# EAGLE library part 749020100A (library WE-LAN)
WE-LAN LAN Transformer Characteristics Suitable for industrial temperatures from –40 °C up to +125 °C Different version available from 1.5 kV isolation to 6 kV. HPLE version Additional CMC for higher attenuation Non PoE, PoE and PoE++ up to 2 A PoE up to 150 W and speeds up to 1 Gbit/s Available in SMT Compliant with standards: IEEE 802.3u, IEEE 802.3ab, IEEE 802.3af, IEEE 802.3at and IEEE 802.3bt UL Recognized Applications Compatible to Industrial Ethernet systems like EtherCAT or Profinet Compliant with most IC’s for Ethernet applications such as Microchip, Texas Instruments, Broadcom, Linear Technology Router, switches, sensors, robotics, automation, IP cameras, IoT applications Details see: www.we-online.com/en/components/products/WE-LAN Updated by Ella Wu 2025-05-13 2025 (C) Würth Elektronik
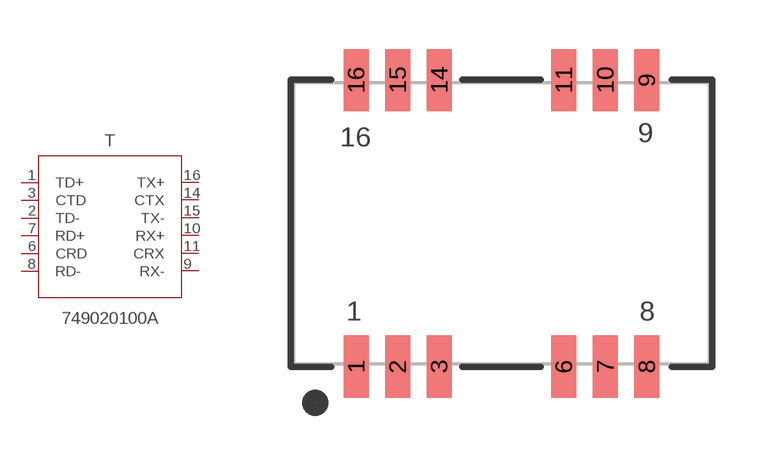
[diagram p4: symbol with the pads of 749020100A; footprint 749020100A]

Designator prefix T

## 749020100A (DATA-RATE: 10/100/1000BASE-T; DATASHEET: https://www.we-online.com/redexpert/spec/749020100A?ae; HPLE: No; IMPROVED-CMRR: No; L: 350 uH; MOUNT: SMT; OPERATING-TEMPERATURE: -40 °C up to +105 °C; PART-NUMBER: 749020100A; POE: non-PoE; PORTS: 0.5; VALUE: 749020100A; VT: 1500 V (RMS))  [749020100A]
1  TD+  pas
2  TD-  pas
3  CTD  pas
6  CRD  pas
7  RD+  pas
8  RD-  pas
9  RX-  pas
10  RX+  pas
11  CRX  pas
14  CTX  pas
15  TX-  pas
16  TX+  pas

## Footprint 749020100A (pad centres in mm)
WE-LAN LAN Transformer 10/100/1000BASE-T, 0.5Port, SMT
smd 0.76 x 1.9: 1 -4.445,-4.385; 2 -3.175,-4.385; 3 -1.905,-4.385; 6 1.905,-4.385; 7 3.175,-4.385; 8 4.445,-4.385; 9 4.445,4.385; 10 3.175,4.385; 11 1.905,4.385; 14 -1.905,4.385; 15 -3.175,4.385; 16 -4.445,4.385